# Altium integrated library 282837-2.IntLib: 1 symbol
Pins are listed as number, name and electrical type; pins without a type are passive.

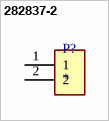
[diagram p0: symbol 282837-2]

## 282837-2
designator P?
Разъемные клеммные колодки Розетка 2 положения 5,08 мм Припой прямой через отверстие 13,5 А / контакт; MF: TE Connectivity; MP: 282837-2
footprint TE_282837-2
pins: 1, 2